# Altium footprint library PcbLib1.PcbLib: 35 footprints (part 3 of 3)
Each footprint in its own frame and in the unit in brackets; x right, y up, seen from the top. Pads: shape width x height; smd on the part's side, far side on the other; paste and mask are expansions set on the pad; w line width, h text height; cw(c..) or ccw(c..) is an arc to the next point about the centre after c.
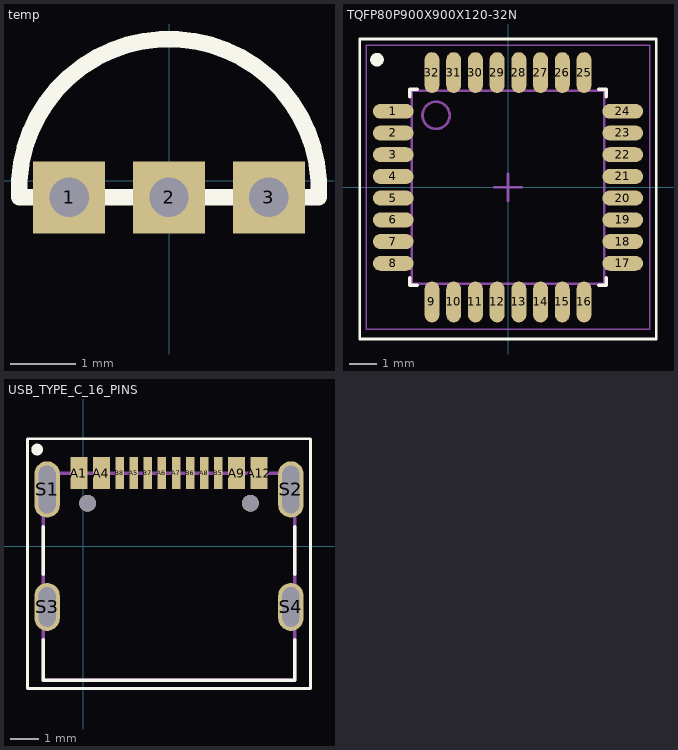
[diagram p2: the footprints below, top view; thin cyan lines are the x and y axes]

## temp [mm]
pads (3):
  rect 1.1x1.1 hole 0.6 square: 1(-1.524,-0.254) 2(0,-0.254) 3(1.524,-0.254)
Top Overlay:
  lines w0.254: -2.286,-0.254 cw(c0,-0.127) 2.286,-0.254 -2.286,-0.254

## TQFP80P900X900X120-32N [mm] "TQFP, 32-Leads, Body 7.00x7.00mm, Pitch 0.80mm, IPC Medium Density"
height 1.2
pads (32):
  oval 1.5x0.55 smd: 1(-4.225,2.8) 2(-4.225,2) 3(-4.225,1.2) 4(-4.225,0.4) 5(-4.225,-0.4) 6(-4.225,-1.2) 7(-4.225,-2) 8(-4.225,-2.8) 17(4.225,-2.8) 18(4.225,-2) 19(4.225,-1.2) 20(4.225,-0.4) 21(4.225,0.4) 22(4.225,1.2) 23(4.225,2) 24(4.225,2.8)
  oval 0.55x1.5 smd: 9(-2.8,-4.225) 10(-2,-4.225) 11(-1.2,-4.225) 12(-0.4,-4.225) 13(0.4,-4.225) 14(1.2,-4.225) 15(2,-4.225) 16(2.8,-4.225) 25(2.8,4.225) 26(2,4.225) 27(1.2,4.225) 28(0.4,4.225) 29(-0.4,4.225) 30(-1.2,4.225) 31(-2,4.225) 32(-2.8,4.225)
Top Overlay:
  circle w0.25: c-4.826,4.699 r0.125
  lines w0.1: -5.461,-5.588 5.461,-5.588 5.461,5.461 -5.461,5.461 -5.461,-5.588
  lines w0.127: -3.614,-3.338 -3.614,-3.614 -3.338,-3.614 ; -3.614,3.338 -3.614,3.614 -3.338,3.614 ; 3.338,-3.614 3.614,-3.614 3.614,-3.338 ; 3.338,3.614 3.614,3.614 3.614,3.338
Top Assembly:
  circle w0.1: c-2.65,2.65 r0.5
  lines w0.1: -3.55,-3.55 -3.55,3.55 3.55,3.55 3.55,-3.55 -3.55,-3.55
Top Designator:
  text "U?" at 0,0.011 h1
Top Courtyard:
  lines w0.05: -5.225,-5.225 -5.225,5.225 5.225,5.225 5.225,-5.225 -5.225,-5.225
Top Component Center:
  lines w0.1: -0.5,0 0.5,0 ; 0,-0.5 0,0.5
3D body "TQFP80P900X900X120-32N.step": height 1.2, standoff 0, extent -4.5,-4.5 4.5,4.5

## USB_TYPE_C_16_PINS [mm]
pads (18):
  rect 0.6x1.14 smd mask+0.05: A1(-0.152,2.591) A4(0.648,2.591) A9(5.448,2.591) A12(6.248,2.591)
  rect 0.3x1.14 smd mask+0.05: A5(1.798,2.591) A6(2.798,2.591) A7(3.298,2.591) A8(4.298,2.591) B5(4.798,2.591) B6(3.798,2.591) B7(2.298,2.591) B8(1.298,2.591)
  oval 0.9x2 hole 0.6 slot 1.7 at 90 deg: S1(-1.277,2.011) S2(7.373,2.011)
  oval 0.9x1.7 hole 0.6 slot 1.4 at 90 deg: S3(-1.277,-2.159) S4(7.373,-2.159)
  round 0.6 hole 0.6 unplated: ""(0.158,1.521) ""(5.938,1.521)
Top Overlay:
  circle w0.2: c-1.631,3.429 r0.107
  lines w0.1: 8.001,3.81 8.07,3.805 8.07,3.791 ; 8.001,3.81 8.07,3.791 ; 8.001,3.81 -1.905,3.81 -1.971,3.805 -1.971,-5.052 8.07,-5.052 8.07,3.791
  lines w0.127: -1.422,-3.329 -1.422,-4.759 7.518,-4.759 7.518,-3.329 ; -1.422,-0.989 -1.422,0.691 ; 7.518,-0.989 7.518,0.691
Top 3D Body:
  circle w0.2: c-1.631,3.429 r0.1
  lines w0.127: -1.422,-4.759 -1.422,2.591 7.518,2.591 7.518,-4.759 -1.422,-4.759
Top Courtyard:
  lines w0.05: -1.977,3.411 -1.977,-5.08 8.073,-5.08 8.073,3.411 ; -1.977,3.792 8.073,3.792
3D body "step_temp.STEP": height 3.31, standoff -0.99, extent -1.422,-4.759 7.518,3.146